# Altium integrated library Pressure Sensors, Transducers.IntLib: 2 symbols
Pins are listed as number, name and electrical type; pins without a type are passive.

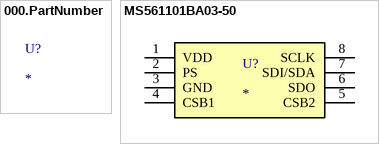
[diagram p0: symbols 000.PartNumber to MS561101BA03-50]

## 000.PartNumber
designator U?
Digikey Description; Manufacturer: *; Series: *; Package: *; Applications: *; Pressure Type: *; Operating Pressure: *; Output Type: *; Output: *; Accuracy: *; Voltage - Supply: *; Port Size: *; Port Style: *; Features: *; Termination Style: *; Maximum Pressure: *; Operating Temperature: *; Package / Case: *; Supplier Device Package: *; Base Product Number: *; Ozdisan Link: *; Digikey Link: *

## MS561101BA03-50
designator U?
BAROMETRIC PRESSURE SENSOR; Manufacturer: TE Connectivity Measurement Specialties; Pressure Type: Absolute; Operating Pressure: 0.15PSI ~ 17.4PSI (1kPa ~ 120kPa); Output Type: I²C, SPI; Output: 24 b; Accuracy: ±0.022PSI (±0.15kPa); Voltage - Supply: 1.8V ~ 3.6V; Port Style: No Port; Maximum Pressure: 87.02PSI (600kPa); Base Product Number: MS5611; Series: -; Package: Tape & Reel (TR); Applications: Board Mount; Port Size: -; Features: -; Termination Style: SMD (SMT) Tab; Operating Temperature: -40°C ~ 85°C; Package / Case: 8-SMD; Supplier Device Package: -; Ozdisan Link: -; Digikey Link: https://www.digikey.com/en/products/detail/te-connectivity-measurement-specialties/MS561101BA03-50/5277445?s=N4IgjCBcoLQdIDGUAuAnArgUwDQgPZQDaIATKQMwgC6AvrXqcSALIDKArAGxhgAMYAEIBBPhRgc%2BNWkA
footprint TE_MS561101BA03-50
pins: 1 VDD, 2 PS, 3 GND, 4 CSB1, 5 CSB2, 6 SDO, 7 SDI/SDA, 8 SCLK